# Altium schematic symbol library ECS-2016MVQ-250-CN-TR.SchLib: 1 symbol
Pins are listed as number, name and electrical type; pins without a type are passive.

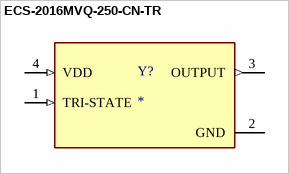
[diagram p0: symbol ECS-2016MVQ-250-CN-TR]

## ECS-2016MVQ-250-CN-TR
designator Y?
MP: ECS-2016MVQ-250-CN-TR; Package: None; Price: None; Value: *; Availability: Unavailable
footprint OSC_ECS-2016MVQ-250-CN-TR
pins: 1 TRI-STATE (in), 2 GND (power), 3 OUTPUT (out), 4 VDD (in)